# Altium schematic symbol library Header254Male_BG301-04-X-XXXX-X-X_REVC.SchLib: 1 symbol
Pins are listed as number, name and electrical type; pins without a type are passive.

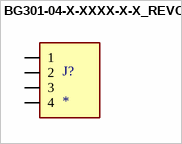
[diagram p0: symbol BG301-04-X-XXXX-X-X_REVC]

## BG301-04-X-XXXX-X-X_REVC
designator J?
Connector Header Surface Mount, Right Angle 4 position 0.100 (2.54mm); MF: Global Connector Technology; MP: BG301-04-A-0540-L-B; SnapEDA_Link: https://www.snapeda.com/parts/BG301-04-A-0540-L-B/Global+Connector+Technology/view-part/?ref=snap; Package: None; Value: *; Check_prices: https://www.snapeda.com/parts/BG301-04-A-0540-L-B/Global+Connector+Technology/view-part/?ref=eda
footprint GCT_BG301-04-X-XXXX-X-X_REVC
pins: 1, 2, 3, 4